# Altium footprint library 5v-5.xxx.PcbLib: 1 footprints
Each footprint in its own frame and in the unit in brackets; x right, y up, seen from the top. Pads: shape width x height; smd on the part's side, far side on the other; paste and mask are expansions set on the pad; w line width, h text height; cw(c..) or ccw(c..) is an arc to the next point about the centre after c.
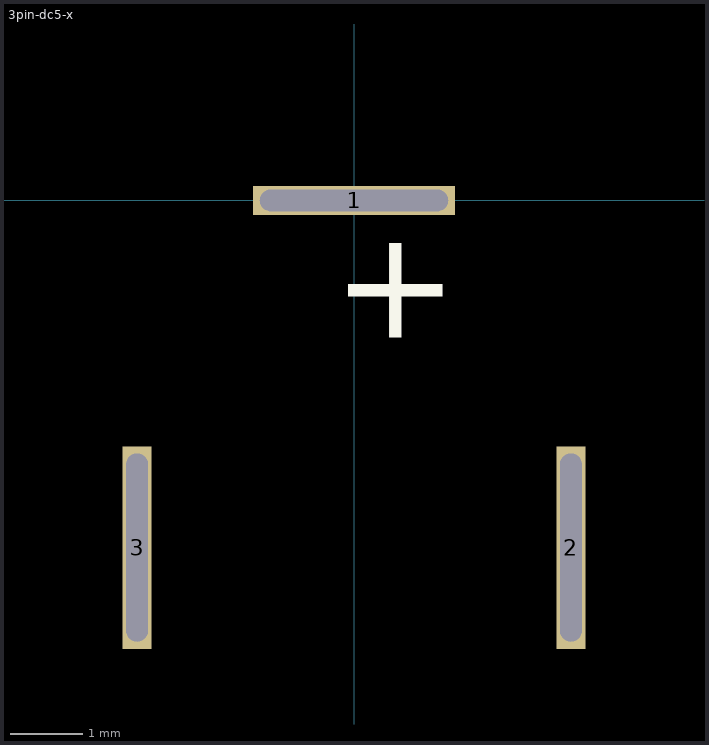
[diagram p0: the footprint, top view; thin cyan lines are the x and y axes]

## 3pin-dc5-x [mm]
pads (3):
  rect 2.8x0.4 hole 0.3 slot 2.6 at 0 deg: 1(0,0)
  rect 0.4x2.8 hole 0.3 slot 2.6 at 90 deg: 2(3,-4.8) 3(-3,-4.8)
Top Overlay:
  text "+" at -0.3,-1.9 h1.52